# EAGLE library part PS2502L-2 (library m_opto)
Dual Darlington Optocoupler
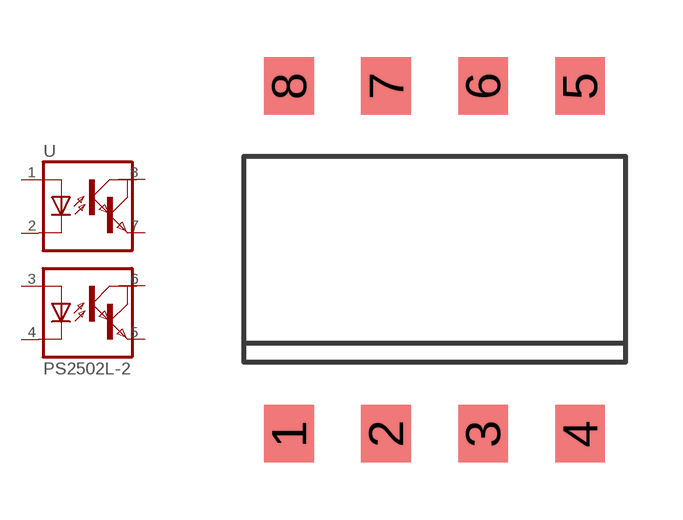
[diagram p1: symbol with the pads of PS2502L; footprint PS2502L]

Designator prefix -

## PS2502L-2  [PS2502L]
1  A1  pas
2  C1  pas
3  A2  pas
4  C2  pas
5  EM2  pas
6  COL2  pas
7  EM1  pas
8  COL1  pas

## Footprint PS2502L (pad centres in mm)
smd 1.3 x 1.5: 1 -3.81,-4.57; 2 -1.27,-4.57; 3 1.27,-4.57; 4 3.81,-4.57; 5 3.81,4.54; 6 1.27,4.54; 7 -1.27,4.54; 8 -3.81,4.54